# Altium footprint library Mach trai tim.PcbLib: 7 footprints
Each footprint in its own frame and in the unit in brackets; x right, y up, seen from the top. Pads: shape width x height; smd on the part's side, far side on the other; paste and mask are expansions set on the pad; w line width, h text height; cw(c..) or ccw(c..) is an arc to the next point about the centre after c.
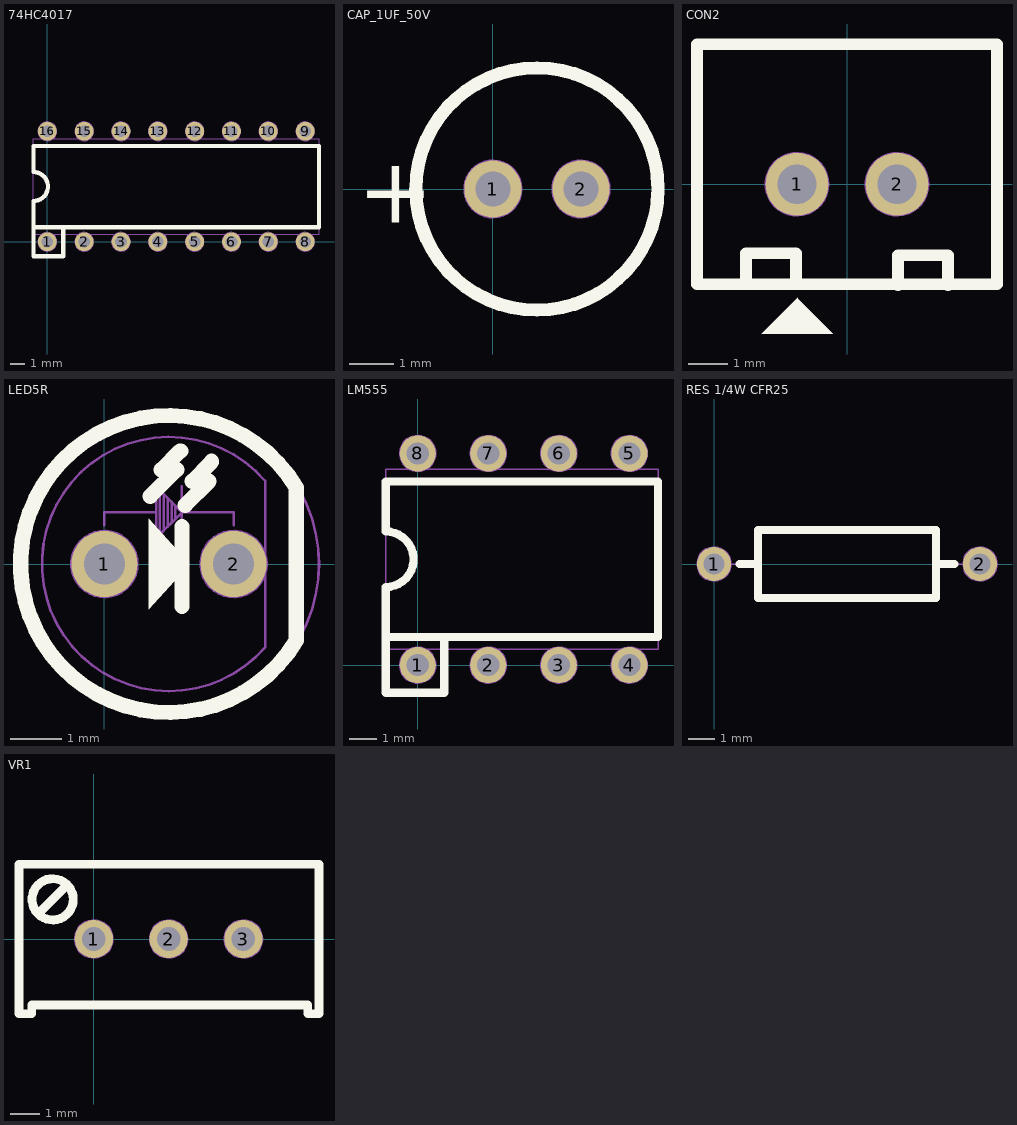
[diagram p0: the footprints below, top view; thin cyan lines are the x and y axes]

## 74HC4017 [mm] "DIP 16, 16 PIN, W 7.62, Pin to pin 2.54MM"
height 5.08
pads (16):
  round 1.3 hole 0.8: 1(0,0) 2(2.54,0) 3(5.08,0) 4(7.62,0) 5(10.16,0) 6(12.7,0) 7(15.24,0) 8(17.78,0) 9(17.78,7.62) 10(15.24,7.62) 11(12.7,7.62) 12(10.16,7.62) 13(7.62,7.62) 14(5.08,7.62) 15(2.54,7.62) 16(0,7.62)
Top Overlay:
  lines w0.3: 1.09,1.01 1.09,-0.99 -0.955,-0.99 -0.955,1.01 ; -0.955,1.01 -0.955,2.81 ccw(c-0.955,3.81) -0.955,4.81 -0.955,6.61 18.735,6.61 18.735,1.01 -0.955,1.01
Mechanical 1:
  circle w0.05: c17.78,7.62 r0.65
  circle w0.05: c17.78,0 r0.65
  circle w0.05: c15.24,7.62 r0.65
  circle w0.05: c15.24,0 r0.65
  circle w0.05: c12.7,7.62 r0.65
  circle w0.05: c12.7,0 r0.65
  circle w0.05: c10.16,7.62 r0.65
  circle w0.05: c10.16,0 r0.65
  circle w0.05: c7.62,7.62 r0.65
  circle w0.05: c7.62,0 r0.65
  circle w0.05: c0,0 r0.65
  circle w0.05: c2.54,0 r0.65
  circle w0.05: c5.08,0 r0.65
  circle w0.05: c7.62,0 r0.65
  circle w0.05: c7.62,7.62 r0.65
  circle w0.05: c5.08,7.62 r0.65
  circle w0.05: c2.54,7.62 r0.65
  circle w0.05: c0,7.62 r0.65
  lines w0.05: -0.955,2.81 ccw(c-0.955,3.81) -0.955,4.81 ; -0.955,0.51 -0.955,7.11 18.735,7.11 18.735,0.51 -0.955,0.51
  text "16" at -0.35,5.81 h1
  text "9" at 17.46,5.69 h1
  text "8" at 17.3,0.87 h1
  text "1" at -0.25,0.91 h1
3D body "User Library-DIP16-300-metric.step": height 4.5, standoff -3.5, extent -1.41,-0.07 19.19,7.69

## CAP_1UF_50V [mm] "Capacitor, Electrolytic, Radial; Body 5 x 11 mm (Dia.xH typ); Pin Spacing 2 mm (typ)"
height 12
pads (2):
  round 1.3 hole 0.8: 1(0,0) 2(2,0)
Top Overlay:
  circle w0.3: c1,0 r2.75
  text "+" at -3.064,-0.762 h1.5
Mechanical 1:
  circle w0.05: c0,0 r0.65
  circle w0.05: c2,0 r0.65
  circle w0.05: c1,0 r2.75
  text "+" at -1.5,-0.5 h1
  text "1" at -0.2,-0.5 h1
  text "2" at 1.7,-0.5 h1
3D body "Cap Polar 5x11.STEP": height 11.53, standoff -3.27, extent -1.525,-2.525 3.525,2.525

## CON2 [mm] "CON2"
height 5.08
pads (2):
  round 1.6 hole 1 mask+0.1: 1(-1.27,0) 2(1.27,0)
Top Overlay:
  region: -2.172,-3.797 -0.368,-3.797 -1.257,-2.908 -1.257,-2.883
  lines w0.3: -2.565,-2.515 -2.565,-1.753 -1.295,-1.753 -1.295,-2.515 ; 1.295,-2.565 1.295,-1.803 2.565,-1.803 2.565,-2.565 ; -3.81,-2.54 3.81,-2.54 3.81,3.556 -3.81,3.556 -3.81,-2.54
Mechanical 1:
  circle w0.05: c-1.27,0 r0.8
  circle w0.05: c1.27,0 r0.8
  region: -2.172,-3.797 -0.368,-3.797 -1.257,-2.908 -1.257,-2.883
  lines w0.05: -2.565,-2.515 -2.565,-1.753 -1.295,-1.753 -1.295,-2.515 ; 1.295,-2.565 1.295,-1.803 2.565,-1.803 2.565,-2.565 ; -3.81,-2.54 3.81,-2.54 3.81,3.556 -3.81,3.556 -3.81,-2.54
  text "1" at -1.4,-0.5 h1
  text "2" at 1,-0.5 h1
  text "CN?" at 0,0 h0.8
3D body "User Library-PW10_2.step": height 7, standoff -3.3, extent -3.75,-2.286 3.75,3.414

## LED5R [mm] "LED, RED, 2 LEAD, 5mm"
height 8.6
pads (2):
  round 1.3 hole 0.8: 1(0,0) 2(2.54,0)
Top Overlay:
  region: 1.676,0 0.876,0.889 0.876,-0.889
  lines w0.3: 0.902,1.333 1.422,1.854 1.118,1.854 1.486,2.222 1.499,2.222 ; 1.524,-0.838 1.524,0.737 ; 1.587,1.156 2.057,1.626 1.727,1.626 2.108,2.007 2.108,2.019 ; 3.775,-1.503 cw(c1.27,0) 3.775,1.503 3.775,-1.503
Mechanical 1:
  circle w0.05: c2.54,0 r0.65
  circle w0.05: c0,0 r0.65
  circle w0.05: c1.27,0 r2.95
  lines w0.05: 0,0.762 0,1.016 1.016,1.016 ; 1.092,1.448 1.092,0.584 ; 1.168,1.372 1.168,0.66 1.092,0.584 ; 1.245,1.295 1.245,0.737 1.321,0.813 ; 1.321,1.219 1.321,0.813 ; 1.397,1.143 1.397,0.889 1.321,0.813 ; 1.524,0.508 1.524,1.524 ; 2.54,0.762 2.54,1.016 2.286,1.016 1.524,1.016 ; 3.159,1.637 ccw(c1.27,0) 3.167,-1.629 ; 3.162,-1.629 3.162,1.637 ; 1.016,0.508 1.016,1.524 1.524,1.016 ; 1.016,0.508 1.524,1.016 ; 1.016,0.508 1.092,0.584
3D body "SW3dPS-LEDd5R.STEP": height 12.31, standoff -2.49, extent -1.71,-3.01 3.71,3.01

## LM555 [mm] "DIP 8, 8 PIN, W 7.62, Pin to pin 2.54MM"
height 4.2
pads (8):
  round 1.3 hole 0.8: 1(0,0) 2(2.54,0) 3(5.08,0) 4(7.62,0) 5(7.62,7.62) 6(5.08,7.62) 7(2.54,7.62) 8(0,7.62)
Top Overlay:
  lines w0.3: 0.95,1.01 0.95,-0.99 -1.15,-0.99 -1.15,1.01 ; -1.15,1.01 8.65,1.01 8.65,6.61 -1.15,6.61 -1.15,4.81 cw(c-1.15,3.81) -1.15,2.81 -1.15,1.01
Mechanical 1:
  circle w0.05: c0,0 r0.65
  circle w0.05: c2.54,0 r0.65
  circle w0.05: c5.08,0 r0.65
  circle w0.05: c7.62,0 r0.65
  circle w0.05: c7.62,7.62 r0.65
  circle w0.05: c5.08,7.62 r0.65
  circle w0.05: c2.54,7.62 r0.65
  circle w0.05: c0,7.62 r0.65
  lines w0.05: -1.15,2.91 ccw(c-1.15,3.81) -1.15,4.71 ; -1.15,0.57 8.65,0.57 8.65,7.05 -1.15,7.05 -1.15,0.57
  text "8" at -0.35,5.81 h1
  text "5" at 7.25,5.81 h1
  text "4" at 7.25,0.91 h1
  text "1" at -0.25,0.91 h1
3D body "DIP8.STEP": height 4.57, standoff -3.81, extent -1.205,-0.1 8.705,7.72

## RES 1/4W CFR25 [mm] "Axial Device, Thru-Hole; 2 Leads fi 0.55"
height 2.6
pads (2):
  round 1.3 hole 0.8 mask+0.1: 1(0,0) 2(10.16,0)
Top Overlay:
  lines w0.3: 0.98,0 1.68,0 ; 8.48,0 9.18,0 ; 1.68,-1.3 1.68,1.3 8.48,1.3 8.48,-1.3 1.68,-1.3
Mechanical 1:
  circle w0.05: c0,0 r0.65
  circle w0.05: c10.16,0 r0.65
  lines w0.05: 0.65,0 1.68,0 ; 8.48,0 9.48,0 ; 1.68,-1.3 8.48,-1.3 8.48,1.3 1.68,1.3 1.68,-1.3
  text "R?" at 0.08,0 h0.5
3D body "User Library-RESISTOR  0_25 W  0_4 IN LEAD PITCH.step": height 2.93, standoff -2.54, extent -0.305,-1.156 10.465,1.156

## VR1 [mm] "Variable Resistor"
height 10.16
pads (3):
  round 1.3 hole 0.8 mask+0.1: 1(0,0) 2(2.54,0) 3(5.08,0)
Top Overlay:
  circle w0.3: c-1.397,1.346 r0.7
  lines w0.3: -1.872,0.872 -0.922,1.822 ; -2.54,-2.54 -2.108,-2.54 -2.108,-2.235 7.264,-2.235 7.264,-2.54 7.645,-2.54 7.645,2.54 -2.54,2.54 -2.54,-2.54
Mechanical 1:
  circle w0.05: c5.08,0 r0.65
  circle w0.05: c2.54,0 r0.65
  circle w0.05: c0,0 r0.65
  circle w0.05: c-1.397,1.346 r0.7
  lines w0.05: -1.872,0.872 -0.922,1.822 ; -2.54,-2.54 -2.108,-2.54 -2.108,-2.235 7.264,-2.235 7.264,-2.54 7.645,-2.54 7.645,2.54 -2.54,2.54 -2.54,-2.54
  text "3" at 4.77,-0.51 h1
  text "2" at 2.24,-0.53 h1
  text "1" at -0.14,-0.49 h1
3D body "SW3dPS-Bourns_3299W.STEP": height 11.56, standoff -1.14, extent -2.223,-3.302 7.302,2.794